# Altium schematic symbol library 3.5inch_44pin_QD-TFT3504.SchLib: 1 symbol
Pins are listed as number, name and electrical type; pins without a type are passive.

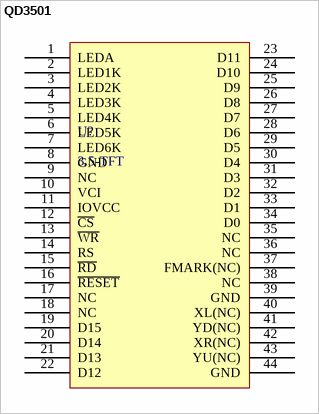
[diagram p0: symbol QD3501]

## QD3501
designator U?, comment 3.5-TFT
3.5inch TFT LCD
pins: 1 LEDA, 2 LED1K, 3 LED2K, 4 LED3K, 5 LED4K, 6 LED5K, 7 LED6K, 8 GND, 9 NC, 10 VCI, 11 IOVCC, 12 ~{CS}, 13 ~{WR}, 14 RS, 15 ~{RD}, 16 ~{RESET}, 17 NC, 18 NC, 19 D15, 20 D14, 21 D13, 22 D12, 23 D11, 24 D10, 25 D9, 26 D8, 27 D7, 28 D6, 29 D5, 30 D4, 31 D3, 32 D2, 33 D1, 34 D0, 35 NC, 36 NC, 37 FMARK(NC), 38 NC, 39 GND, 40 XL(NC), 41 YD(NC), 42 XR(NC), 43 YU(NC), 44 GND